# EAGLE library part LME49810 (library ICs)
LME49810 200V Audio Power Amplifier Driver with Baker Clamp
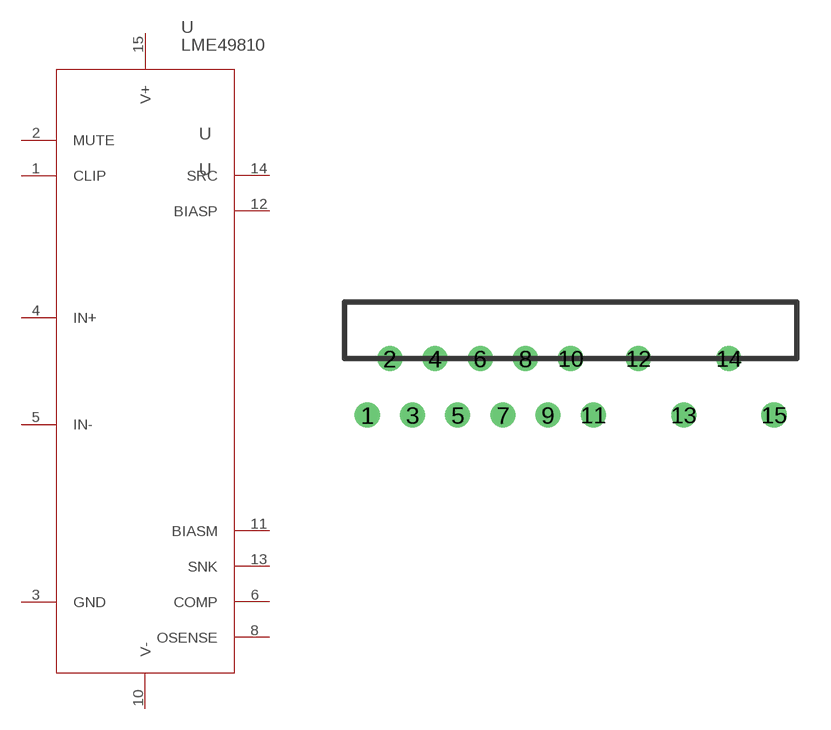
[diagram p184: symbol with the pads of LME498XX; footprint LME498XX]

Designator prefix U

## LME49810 (HEIGHT: 15; PRICE_PER: 10; VALUE: LME49810)  [LME498XX]
1  CLIP
2  MUTE
3  GND
4  IN+
5  IN-
6  COMP
8  OSENSE
10  V-
11  BIASM
12  BIASP
13  SNK
14  SRC
15  V+

## Footprint LME498XX (pad centres in mm)
drill 0.6 pad 1: 1 -9,-2.5; 2 -8,0; 3 -7,-2.5; 4 -6,0; 5 -5,-2.5; 6 -4,0; 7 -3,-2.5; 8 -2,0; 9 -1,-2.5; 10 0,0; 11 1,-2.5; 12 3,0; 13 5,-2.5; 14 7,0; 15 9,-2.5